# Altium footprint library H1X4_Mod.PcbLib: 1 footprints
Each footprint in its own frame and in the unit in brackets; x right, y up, seen from the top. Pads: shape width x height; smd on the part's side, far side on the other; paste and mask are expansions set on the pad; w line width, h text height; cw(c..) or ccw(c..) is an arc to the next point about the centre after c.
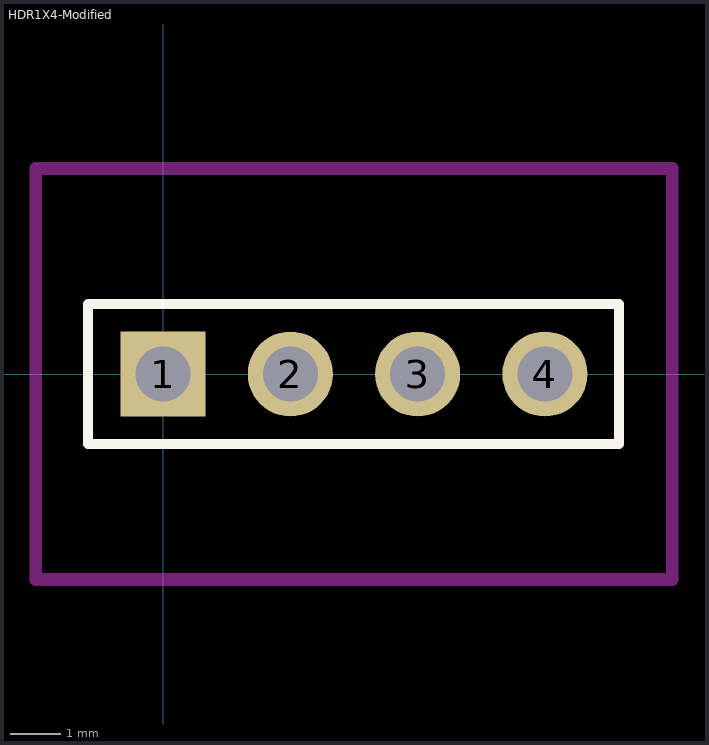
[diagram p0: the footprint, top view; thin cyan lines are the x and y axes]

## HDR1X4-Modified [mm] "Connector; Header; 4 Position"
pads (4):
  rect 1.7x1.7 hole 1.1: 1(0,0)
  round 1.7 hole 1.1: 2(2.54,0) 3(5.08,0) 4(7.62,0)
Top Overlay:
  lines w0.2: -1.5,-1.4 -1.5,1.4 9.1,1.4 9.1,-1.4 -1.5,-1.4
Keep-Out Layer:
  lines w0.254: -2.54,-4.1 10.16,-4.1 10.16,4.1 -2.54,4.1 -2.54,-4.1